# EAGLE library part JST-XH-6 (library con-JST-XH)
JST-XH 4-way vertical TH
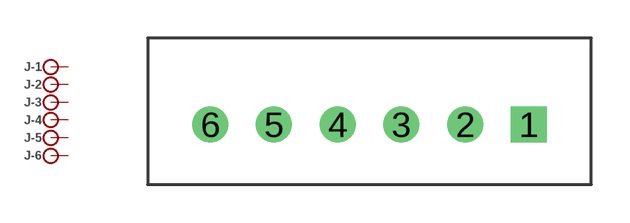
[diagram p0: symbol with the pads of B6B-XH-A; footprint B6B-XH-A]

Designator prefix J; gates -1=PIN -2=PIN -3=PIN -4=PIN -5=PIN -6=PIN

## JST-XH-6 (MF: JST; MPN: B6B-XH-A)  [B6B-XH-A]
1  -1:P
2  -2:P
3  -3:P
4  -4:P
5  -5:P
6  -6:P

## Footprint B6B-XH-A (pad centres in mm)
JST-XH (2.5mm) 6-pin through-hole vertical Wire-Board Connector
drill 0.9 square: 1 6.25,0
drill 0.9: 2 3.75,0; 3 1.25,0; 4 -1.25,0; 5 -3.75,0; 6 -6.25,0